# EAGLE library part PINHD-2X12 (library pinhead)
PIN HEADER
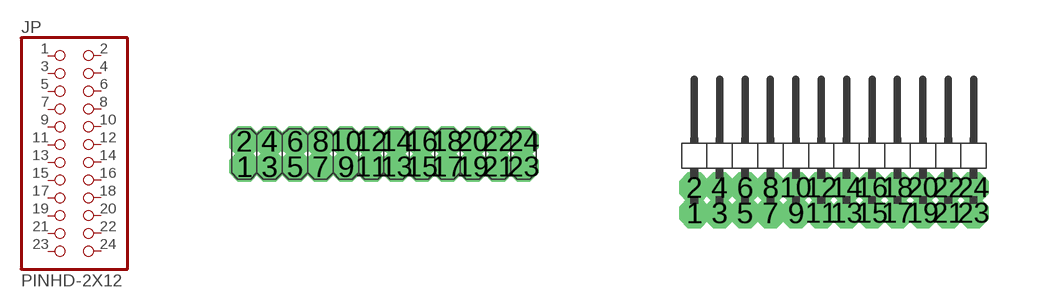
[diagram p29: symbol with the pads of 2X12; footprints 2X12, 2X12/90]

Designator prefix JP

## PINHD-2X12  [2X12]
1  1  pas
2  2  pas
3  3  pas
4  4  pas
5  5  pas
6  6  pas
7  7  pas
8  8  pas
9  9  pas
10  10  pas
11  11  pas
12  12  pas
13  13  pas
14  14  pas
15  15  pas
16  16  pas
17  17  pas
18  18  pas
19  19  pas
20  20  pas
21  21  pas
22  22  pas
23  23  pas
24  24  pas

## PINHD-2X12/90  [2X12/90]
Pads as for 2X12

## Footprint 2X12 (pad centres in mm)
PIN HEADER
drill 0.254 octagon: 1 -3.493,-0.318; 2 -3.493,0.318; 3 -2.857,-0.318; 4 -2.857,0.318; 5 -2.223,-0.318; 6 -2.223,0.318; 7 -1.587,-0.318; 8 -1.587,0.318; 9 -0.953,-0.318; 10 -0.953,0.318; 11 -0.318,-0.318; 12 -0.318,0.318; 13 0.318,-0.318; 14 0.318,0.318; 15 0.953,-0.318; 16 0.953,0.318; 17 1.587,-0.318; 18 1.587,0.318; 19 2.223,-0.318; 20 2.223,0.318; 21 2.857,-0.318; 22 2.857,0.318; 23 3.493,-0.318; 24 3.493,0.318

## Footprint 2X12/90 (pad centres in mm)
PIN HEADER
drill 0.254 octagon: 1 -3.493,-1.587; 2 -3.493,-0.953; 3 -2.857,-1.587; 4 -2.857,-0.953; 5 -2.223,-1.587; 6 -2.223,-0.953; 7 -1.587,-1.587; 8 -1.587,-0.953; 9 -0.953,-1.587; 10 -0.953,-0.953; 11 -0.318,-1.587; 12 -0.318,-0.953; 13 0.318,-1.587; 14 0.318,-0.953; 15 0.953,-1.587; 16 0.953,-0.953; 17 1.587,-1.587; 18 1.587,-0.953; 19 2.223,-1.587; 20 2.223,-0.953; 21 2.857,-1.587; 22 2.857,-0.953; 23 3.493,-1.587; 24 3.493,-0.953